# EAGLE library part R1LP0408DSB-5SI#S1 (library 07-Retrocomputing)
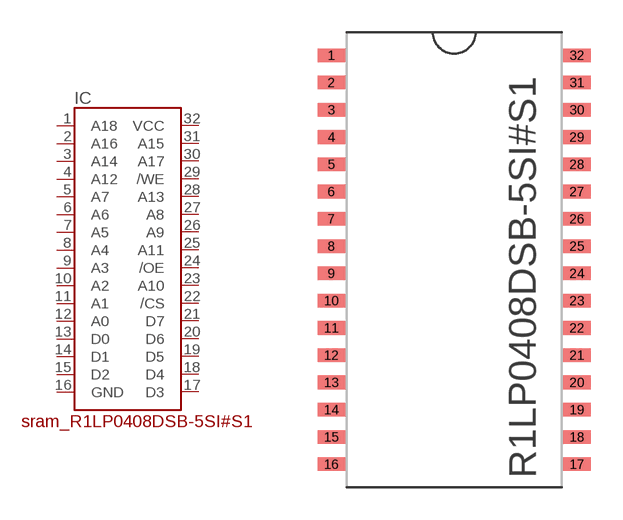
[diagram p20: symbol with the pads of RENESAS_32-TSOP-II; footprint RENESAS_32-TSOP-II]

Designator prefix IC

## R1LP0408DSB-5SI#S1  [RENESAS_32-TSOP-II]
1  A18
2  A16
3  A14
4  A12
5  A7
6  A6
7  A5
8  A4
9  A3
10  A2
11  A1
12  A0
13  D0
14  D1
15  D2
16  GND
17  D3
18  D4
19  D5
20  D6
21  D7
22  /CS
23  A10
24  /OE
25  A11
26  A9
27  A8
28  A13
29  /WE
30  A17
31  A15
32  VCC

## Footprint RENESAS_32-TSOP-II (pad centres in mm)
smd 1.27 x 0.635: 1 -5.715,9.525; 2 -5.715,8.255; 3 -5.715,6.985; 4 -5.715,5.715; 5 -5.715,4.445; 6 -5.715,3.175; 7 -5.715,1.905; 8 -5.715,0.635; 9 -5.715,-0.635; 10 -5.715,-1.905; 11 -5.715,-3.175; 12 -5.715,-4.445; 13 -5.715,-5.715; 14 -5.715,-6.985; 15 -5.715,-8.255; 16 -5.715,-9.525; 17 5.715,-9.525; 18 5.715,-8.255; 19 5.715,-6.985; 20 5.715,-5.715; 21 5.715,-4.445; 22 5.715,-3.175; 23 5.715,-1.905; 24 5.715,-0.635; 25 5.715,0.635; 26 5.715,1.905; 27 5.715,3.175; 28 5.715,4.445; 29 5.715,5.715; 30 5.715,6.985; 31 5.715,8.255; 32 5.715,9.525